# Altium schematic symbol library FXOS8700CQ.SchLib: 1 symbol
Pins are listed as number, name and electrical type; pins without a type are passive.

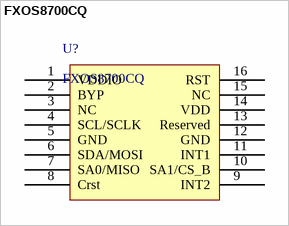
[diagram p0: symbol FXOS8700CQ]

## FXOS8700CQ
designator U?
pins: 1 VDDIO, 2 BYP, 3 NC, 4 SCL/SCLK, 5 GND, 6 SDA/MOSI, 7 SA0/MISO, 8 Crst, 9 INT2, 10 SA1/CS_B, 11 INT1, 12 GND, 13 Reserved, 14 VDD, 15 NC, 16 RST